# Altium footprint library LED_pcblib.PcbLib: 3 footprints
Each footprint in its own frame and in the unit in brackets; x right, y up, seen from the top. Pads: shape width x height; smd on the part's side, far side on the other; paste and mask are expansions set on the pad; w line width, h text height; cw(c..) or ccw(c..) is an arc to the next point about the centre after c.
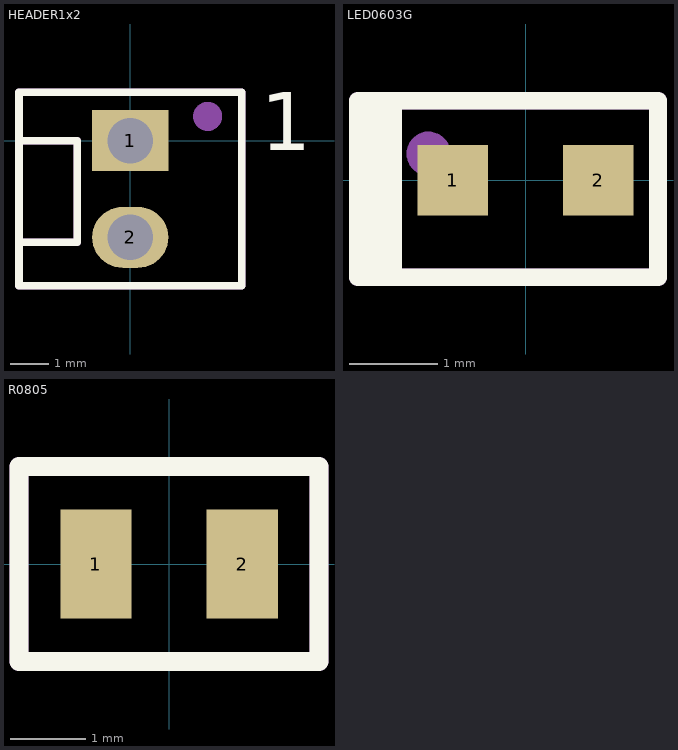
[diagram p0: the footprints below, top view; thin cyan lines are the x and y axes]

## HEADER1x2 [mm]
pads (2):
  rect 2x1.6 hole 1.2: 1(0,0)
  oval 2x1.6 hole 1.2: 2(0,-2.54)
Top Overlay:
  lines w0.2: -2.921,-2.667 -1.397,-2.667 -1.397,0 -2.921,0 ; -2.921,-3.81 -2.921,1.27 2.921,1.27 2.921,-3.81 -2.921,-3.81
  text "1" at 3.429,-0.254 h1.52
Mechanical 29:
  circle w0.508: c2.032,0.635 r0.127
  lines w0.2: -2.921,-2.667 -1.397,-2.667 -1.397,0 -2.921,0 ; -2.921,-3.81 2.921,-3.81 2.921,1.27 -2.921,1.27 -2.921,-3.81
  text "'.Designator'" at -1.016,-2.413 h1.4
3D body "022272021.stp": height 11.71, standoff -3.55, extent -2.9,-3.81 2.9,1.27

## LED0603G [mm]
pads (2):
  rect 0.8x0.8 smd: 1(-0.825,0) 2(0.825,0)
Top Overlay:
  rectangle: -1.9,-1.1 -1.4,0.9
  lines w0.2: -1.9,-1.1 -1.563,-1.1 1.5,-1.1 1.5,0.9 -1.9,0.9 -1.9,-1.1
Mechanical 29:
  circle w0.3: c-1.1,0.3 r0.1
  rectangle: -1.9,-1.1 -1.4,0.9
  lines w0.2: -1.9,-1.1 -1.9,0.9 1.5,0.9 1.5,-1.1 -1.563,-1.1 -1.9,-1.1
  text "'.Designator'" at -0.1,-0.5 h0.7
3D body "User Library-SMD LED 0603.step": height 0.4, standoff 0.01, extent -0.8,-0.4 0.8,0.4

## R0805 [mm]
pads (2):
  rect 0.95x1.45 smd: 1(-0.975,0) 2(0.975,0)
Top Overlay:
  lines w0.254: -2,-1.3 2,-1.3 2,1.3 -2,1.3 -2,-1.3
Mechanical 29:
  lines w0.254: -2,-1.3 -2,1.3 2,1.3 2,-1.3 -2,-1.3
  text "'.Designator'" at 0,0 h0.7
3D body "User Library-CR2012-0805.step": height 0.61, standoff 0.01, extent -1,-0.625 1,0.625